# EAGLE library part ETD29/16/10* (library BW-PassiveMechanical)
Self-wound Transformer/Inductor
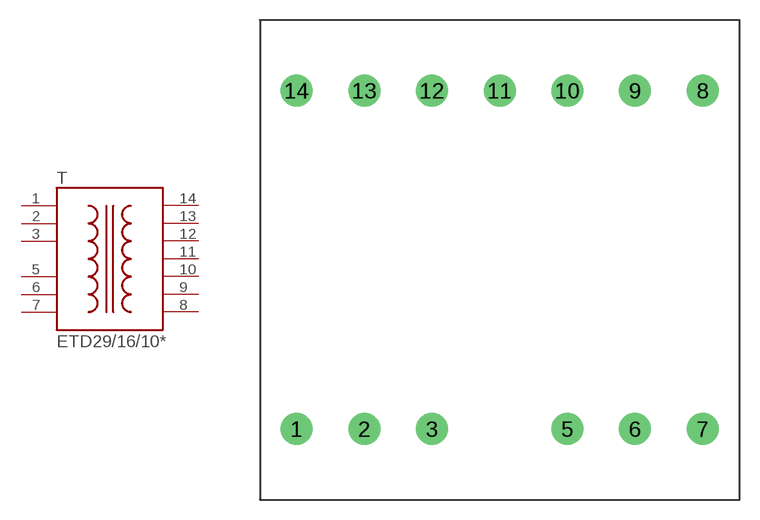
[diagram p2: symbol with the pads of ETD29/16/10-H; footprint ETD29/16/10-H]

Designator prefix T

## ETD29/16/10-H  [ETD29/16/10-H]
1  1
2  2
3  3
5  5
6  6
7  7
8  8
9  9
10  10
11  11
12  12
13  13
14  14

## Footprint ETD29/16/10-H (pad centres in mm)
drill 1.6: 1 -15.24,-12.7; 2 -10.16,-12.7; 3 -5.08,-12.7; 5 5.08,-12.7; 6 10.16,-12.7; 7 15.24,-12.7; 8 15.24,12.7; 9 10.16,12.7; 10 5.08,12.7; 11 0,12.7; 12 -5.08,12.7; 13 -10.16,12.7; 14 -15.24,12.7